# EAGLE library part USBLC6-2SC6 (library Remote)
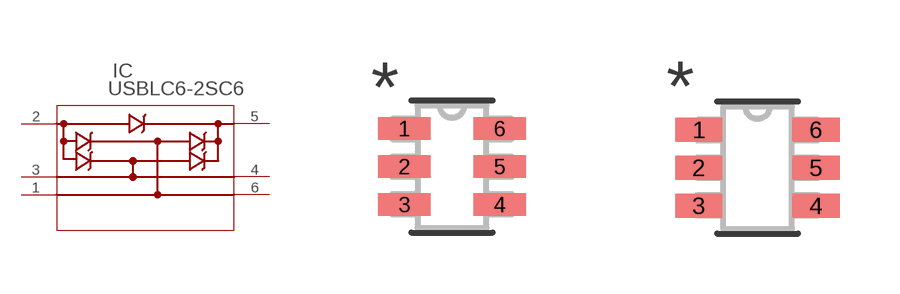
[diagram p1: symbol with the pads of SOT23-6L; footprints SOT23-6L, SOT23-6L-M]

Designator prefix IC

## USBLC6-2SC6 (BUILT_BY: EMA_UL_Team; MANUFACTURER_PART_NUMBER: USBLC6-2SC6; VENDOR: STMicroelectronics)  [SOT23-6L]
1  I/O1_2
2  GND  pwr
3  I/O2_2
4  I/O2
5  VBUS  pwr
6  I/O1

## USBLC6-2SC6SOT23-6L-M (BUILT_BY: EMA_UL_Team; MANUFACTURER_PART_NUMBER: USBLC6-2SC6; VENDOR: STMicroelectronics)  [SOT23-6L-M]
Pads as for SOT23-6L

## USBLC6-2SC6SOT23-6L-L (BUILT_BY: EMA_UL_Team; MANUFACTURER_PART_NUMBER: USBLC6-2SC6; VENDOR: STMicroelectronics)  [SOT23-6L-L]
Pads as for SOT23-6L

## Footprint SOT23-6L (pad centres in mm)
smd 1.321 x 0.559: 1 -1.194,0.95; 2 -1.194,0; 3 -1.194,-0.95; 4 1.194,-0.95; 5 1.194,0; 6 1.194,0.95

## Footprint SOT23-6L-M (pad centres in mm)
smd 1.181 x 0.61: 1 -1.467,0.95; 2 -1.467,0; 3 -1.467,-0.95; 4 1.467,-0.95; 5 1.467,0; 6 1.467,0.95

## Footprint SOT23-6L-L (pad centres in mm)
smd 0.775 x 0.508: 1 -1.264,0.95; 2 -1.264,0; 3 -1.264,-0.95; 4 1.264,-0.95; 5 1.264,0; 6 1.264,0.95